# Altium footprint library 4051.PcbLib: 2 footprints
Each footprint in its own frame and in the unit in brackets; x right, y up, seen from the top. Pads: shape width x height; smd on the part's side, far side on the other; paste and mask are expansions set on the pad; w line width, h text height; cw(c..) or ccw(c..) is an arc to the next point about the centre after c.
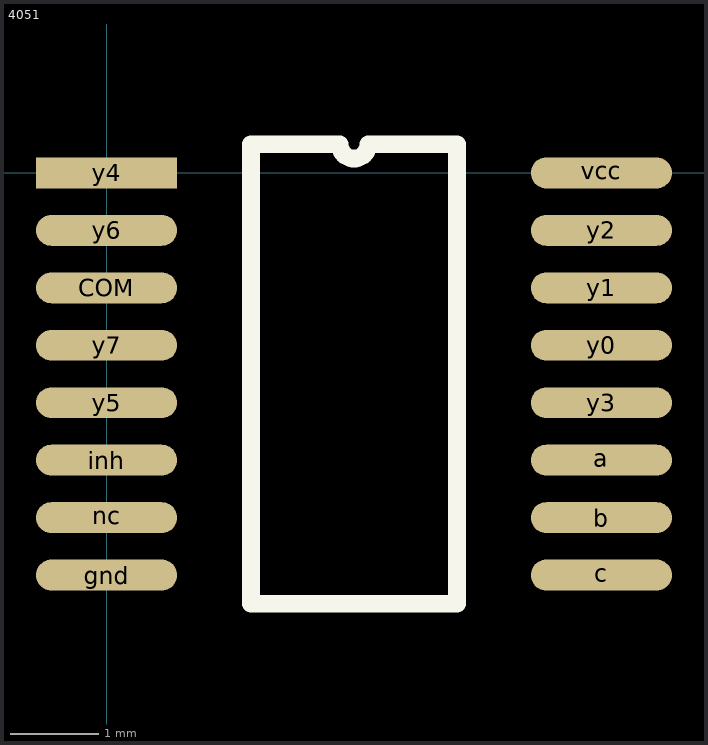
[diagram p0: the footprints below, top view; thin cyan lines are the x and y axes]

## 4051 [mm]
pads (16):
  oval 1.6x0.35 smd: a(5.6,-3.25) b(5.6,-3.9) c(5.6,-4.55) COM(0,-1.3) gnd(0,-4.55) inh(0,-3.25) nc(0,-3.9) vcc(5.6,0) y0(5.6,-1.95) y1(5.6,-1.3) y2(5.6,-0.65) y3(5.6,-2.6) y5(0,-2.6) y6(0,-0.65) y7(0,-1.95)
  rect 1.6x0.35 smd: y4(0,0)
Top Overlay:
  lines w0.2: 1.635,-4.875 1.635,0.325 2.638,0.325 ccw(c2.8,0.325) 2.962,0.325 3.965,0.325 3.965,-4.875 1.635,-4.875

## PCBComponent_1 [mm]